# EAGLE library part BOB_LQFP64_LPC11U24 (library CEDTv79)
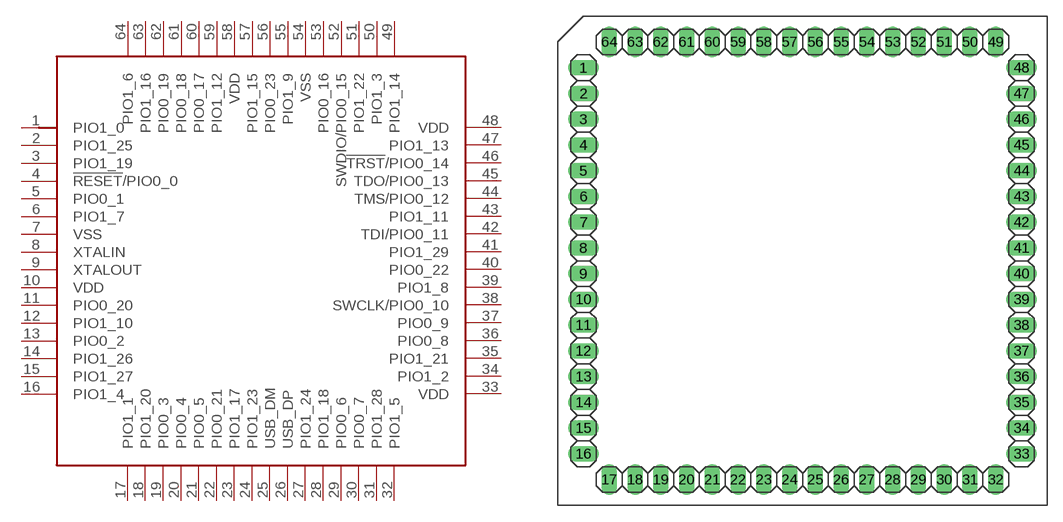
[diagram p59: symbol with the pads of BOB_LQFP64_OVAL; footprint BOB_LQFP64_OVAL]

Designator prefix -

## BOB_LQFP64_LPC11U24  [BOB_LQFP64_OVAL]
1  PIO1_0
2  PIO1_25
3  PIO1_19
4  !RESET!/PIO0_0
5  PIO0_1
6  PIO1_7
7  VSS
8  XTALIN
9  XTALOUT
10  VDD
11  PIO0_20
12  PIO1_10
13  PIO0_2
14  PIO1_26
15  PIO1_27
16  PIO1_4
17  PIO1_1
18  PIO1_20
19  PIO0_3
20  PIO0_4
21  PIO0_5
22  PIO0_21
23  PIO1_17
24  PIO1_23
25  USB_DM
26  USB_DP
27  PIO1_24
28  PIO1_18
29  PIO0_6
30  PIO0_7
31  PIO1_28
32  PIO1_5
33  VDD
34  PIO1_2
35  PIO1_21
36  PIO0_8
37  PIO0_9
38  SWCLK/PIO0_10
39  PIO1_8
40  PIO0_22
41  PIO1_29
42  TDI/PIO0_11
43  PIO1_11
44  TMS/PIO0_12
45  TDO/PIO0_13
46  !TRST!/PIO0_14
47  PIO1_13
48  VDD
49  PIO1_14
50  PIO1_3
51  PIO1_22
52  SWDIO/PIO0_15
53  PIO0_16
54  VSS
55  PIO1_9
56  PIO0_23
57  PIO1_15
58  VDD
59  PIO1_12
60  PIO0_17
61  PIO0_18
62  PIO0_19
63  PIO1_16
64  PIO1_6

## Footprint BOB_LQFP64_OVAL (pad centres in mm)
drill 1.016 long: 1 -21.59,19.05; 2 -21.59,16.51; 3 -21.59,13.97; 4 -21.59,11.43; 5 -21.59,8.89; 6 -21.59,6.35; 7 -21.59,3.81; 8 -21.59,1.27; 9 -21.59,-1.27; 10 -21.59,-3.81; 11 -21.59,-6.35; 12 -21.59,-8.89; 13 -21.59,-11.43; 14 -21.59,-13.97; 15 -21.59,-16.51; 16 -21.59,-19.05; 17 -19.05,-21.59; 18 -16.51,-21.59; 19 -13.97,-21.59; 20 -11.43,-21.59; 21 -8.89,-21.59; 22 -6.35,-21.59; 23 -3.81,-21.59; 24 -1.27,-21.59; 25 1.27,-21.59; 26 3.81,-21.59; 27 6.35,-21.59; 28 8.89,-21.59; 29 11.43,-21.59; 30 13.97,-21.59; 31 16.51,-21.59; 32 19.05,-21.59; 33 21.59,-19.05; 34 21.59,-16.51; 35 21.59,-13.97; 36 21.59,-11.43; 37 21.59,-8.89; 38 21.59,-6.35; 39 21.59,-3.81; 40 21.59,-1.27; 41 21.59,1.27; 42 21.59,3.81; 43 21.59,6.35; 44 21.59,8.89; 45 21.59,11.43; 46 21.59,13.97; 47 21.59,16.51; 48 21.59,19.05; 49 19.05,21.59; 50 16.51,21.59; 51 13.97,21.59; 52 11.43,21.59; 53 8.89,21.59; 54 6.35,21.59; 55 3.81,21.59; 56 1.27,21.59; 57 -1.27,21.59; 58 -3.81,21.59; 59 -6.35,21.59; 60 -8.89,21.59; 61 -11.43,21.59; 62 -13.97,21.59; 63 -16.51,21.59; 64 -19.05,21.59